# EAGLE library part BED_MOTOR_DRIVER (library Labops_Lib_AH)
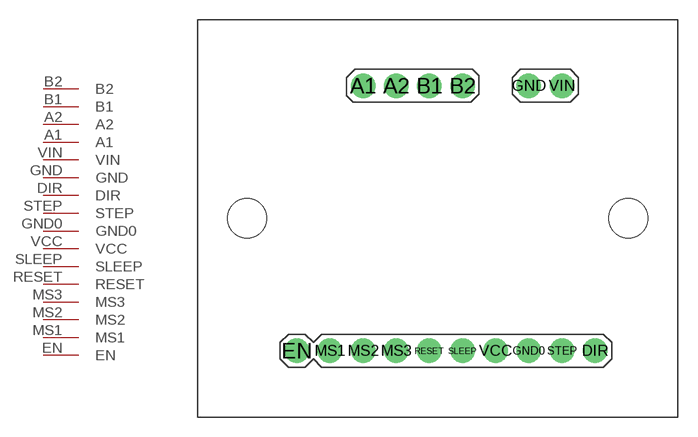
[diagram p11: symbol with the pads of BED_MOTOR_DRIVER; footprint BED_MOTOR_DRIVER]

Designator prefix -

## BED_MOTOR_DRIVER  [BED_MOTOR_DRIVER]
A1  A1
A2  A2
B1  B1
B2  B2
DIR  DIR
EN  EN
GND  GND
GND0  GND0
MS1  MS1
MS2  MS2
MS3  MS3
RESET  RESET
SLEEP  SLEEP
STEP  STEP
VCC  VCC
VIN  VIN

## Footprint BED_MOTOR_DRIVER (pad centres in mm)
drill 1.2 pad 1.88: A1 5.08,20.32; A2 7.62,20.32; B1 10.16,20.32; B2 12.7,20.32; DIR 22.86,0; EN 0,0; GND 17.78,20.32; GND0 17.78,0; MS1 2.54,0; MS2 5.08,0; MS3 7.62,0; RESET 10.16,0; SLEEP 12.7,0; STEP 20.32,0; VCC 15.24,0; VIN 20.32,20.32
hole 3 at -3.81,10.16
hole 3 at 25.4,10.16